# Altium footprint library Connector_Phoenix_MC_HighVoltage.PcbLib: 66 footprints (part 4 of 5)
Each footprint in its own frame and in the unit in brackets; x right, y up, seen from the top. Pads: shape width x height; smd on the part's side, far side on the other; paste and mask are expansions set on the pad; w line width, h text height; cw(c..) or ccw(c..) is an arc to the next point about the centre after c.
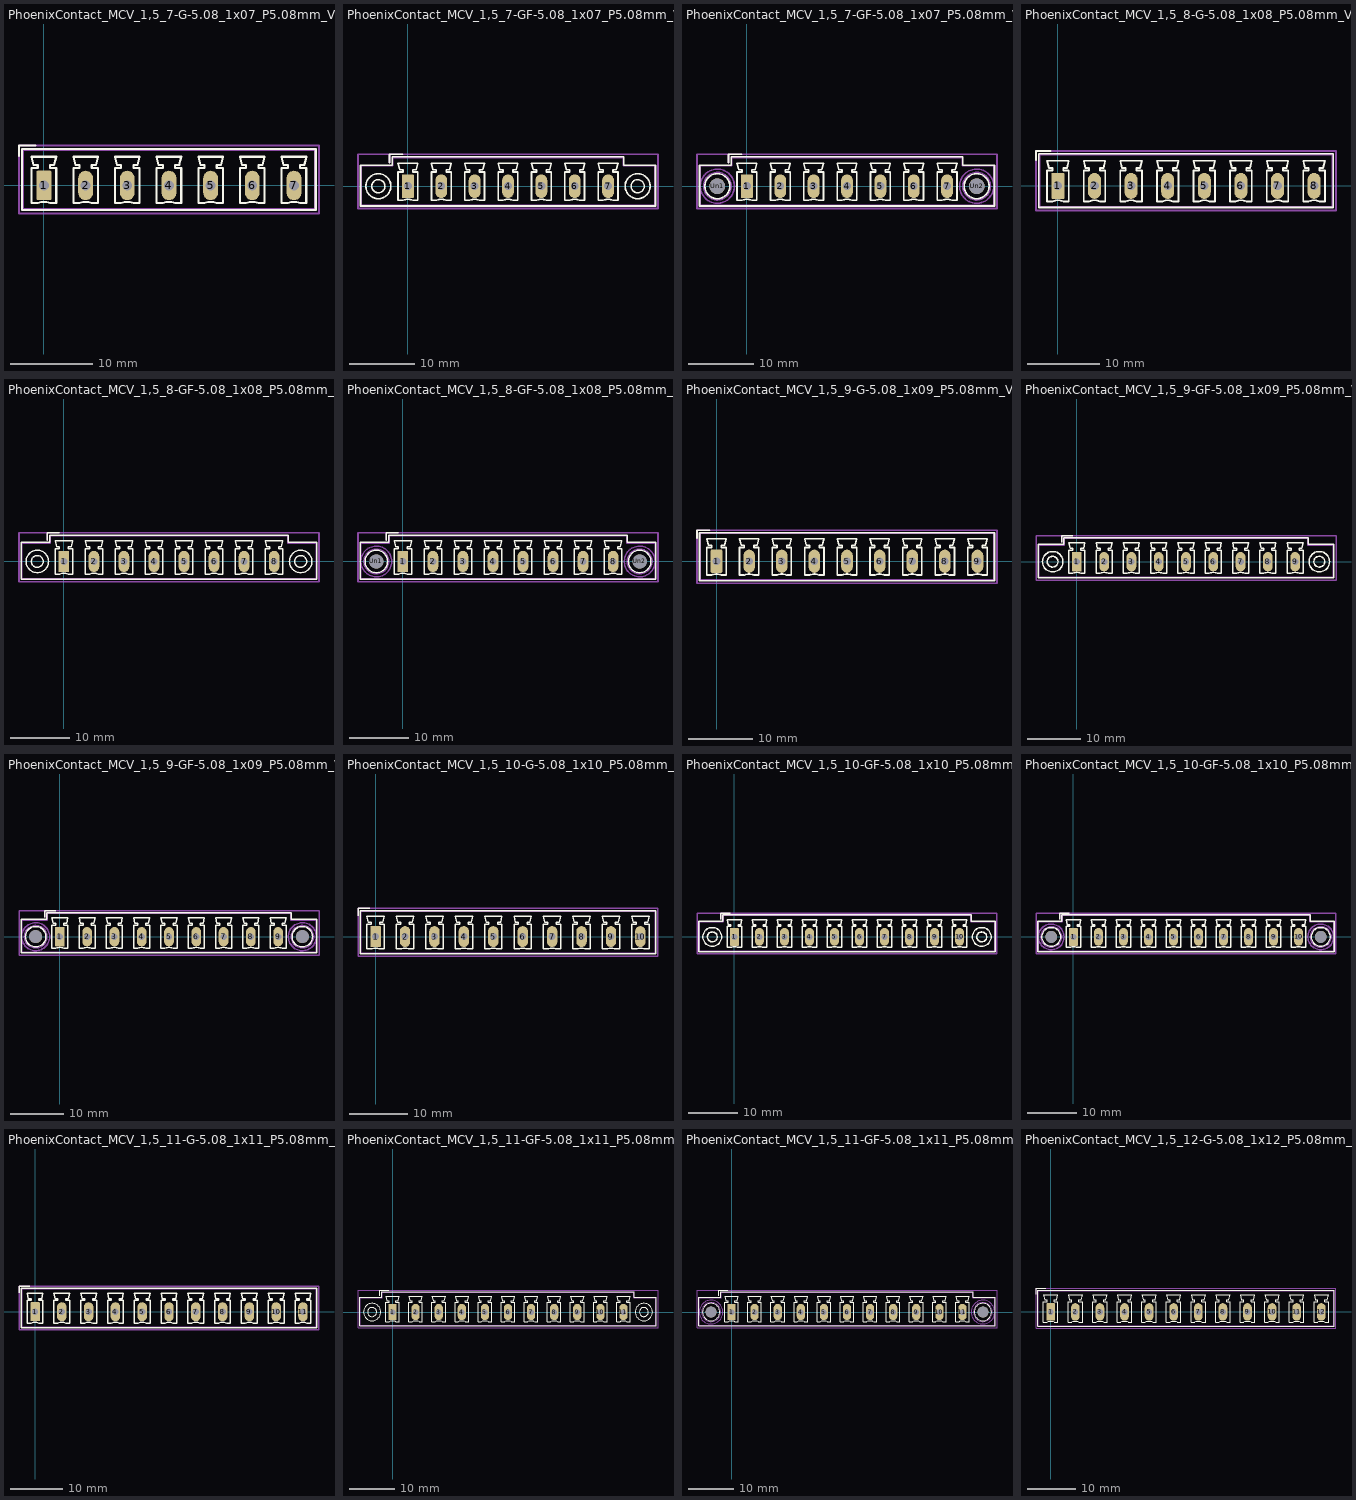
[diagram p3: the footprints below, top view; thin cyan lines are the x and y axes]

## PhoenixContact_MCV_1,5_7-G-5.08_1x07_P5.08mm_Vertical [mm]
pads (7):
  rrect14% 1.8x3.6 hole 1.2: 1(0,0)
  rrect100% 1.8x3.6 hole 1.2: 2(5.08,0) 3(10.16,0) 4(15.24,0) 5(20.32,0) 6(25.4,0) 7(30.48,0)
F.SilkS:
  lines w0.254: -3.04,3.6 -3.04,4.85 -1.04,4.85 ; 0.75,-2.15 ccw(c0,-3.85) -0.75,-2.15 -1.5,-2.15 -1.5,2.15 -0.75,2.15 -0.75,2.5 -1.25,2.5 -1.5,3.5 1.5,3.5 1.25,2.5 0.75,2.5 0.75,2.15 1.5,2.15 1.5,-2.15 0.75,-2.15 ; 5.83,-2.15 ccw(c5.08,-3.85) 4.33,-2.15 3.58,-2.15 3.58,2.15 4.33,2.15 4.33,2.5 3.83,2.5 3.58,3.5 6.58,3.5 6.33,2.5 5.83,2.5 5.83,2.15 6.58,2.15 6.58,-2.15 5.83,-2.15 ; 10.91,-2.15 ccw(c10.16,-3.85) 9.41,-2.15 8.66,-2.15 8.66,2.15 9.41,2.15 9.41,2.5 8.91,2.5 8.66,3.5 11.66,3.5 11.41,2.5 10.91,2.5 10.91,2.15 11.66,2.15 11.66,-2.15 10.91,-2.15 ; 15.99,-2.15 ccw(c15.24,-3.85) 14.49,-2.15 13.74,-2.15 13.74,2.15 14.49,2.15 14.49,2.5 13.99,2.5 13.74,3.5 16.74,3.5 16.49,2.5 15.99,2.5 15.99,2.15 16.74,2.15 16.74,-2.15 15.99,-2.15 ; 21.07,-2.15 ccw(c20.32,-3.85) 19.57,-2.15 18.82,-2.15 18.82,2.15 19.57,2.15 19.57,2.5 19.07,2.5 18.82,3.5 21.82,3.5 21.57,2.5 21.07,2.5 21.07,2.15 21.82,2.15 21.82,-2.15 21.07,-2.15 ; 26.15,-2.15 ccw(c25.4,-3.85) 24.65,-2.15 23.9,-2.15 23.9,2.15 24.65,2.15 24.65,2.5 24.15,2.5 23.9,3.5 26.9,3.5 26.65,2.5 26.15,2.5 26.15,2.15 26.9,2.15 26.9,-2.15 26.15,-2.15 ; 31.23,-2.15 ccw(c30.48,-3.85) 29.73,-2.15 28.98,-2.15 28.98,2.15 29.73,2.15 29.73,2.5 29.23,2.5 28.98,3.5 31.98,3.5 31.73,2.5 31.23,2.5 31.23,2.15 31.98,2.15 31.98,-2.15 31.23,-2.15 ; -2.65,-3.01 33.13,-3.01 33.13,4.46 -2.65,4.46 -2.65,-3.01
Top Assembly:
  lines w0.254: -3.04,3.6 -3.04,4.85 -1.04,4.85 ; -2.54,-2.9 33.02,-2.9 33.02,4.35 -2.54,4.35 -2.54,-2.9
  text "'.Designator'" at 11.193,2.81 h1
Top Courtyard:
  lines w0.254: -3.04,-3.41 33.53,-3.41 33.53,4.85 -3.04,4.85 -3.04,-3.41
Top Designator:
  text ".Designator" at 7.627,0.212 h1.52

## PhoenixContact_MCV_1,5_7-GF-5.08_1x07_P5.08mm_Vertical_ThreadedFlange [mm]
pads (7):
  rrect14% 1.8x3.6 hole 1.2: 1(0,0)
  rrect100% 1.8x3.6 hole 1.2: 2(5.08,0) 3(10.16,0) 4(15.24,0) 5(20.32,0) 6(25.4,0) 7(30.48,0)
F.SilkS:
  circle w0.254: c34.98,0 r1.9
  circle w0.254: c34.98,0 r1
  circle w0.254: c-4.5,0 r1.9
  circle w0.254: c-4.5,0 r1
  lines w0.254: -2.8,3.6 -2.8,4.85 -0.8,4.85 ; 0.75,-2.15 ccw(c0,-3.85) -0.75,-2.15 -1.5,-2.15 -1.5,2.15 -0.75,2.15 -0.75,2.5 -1.25,2.5 -1.5,3.5 1.5,3.5 1.25,2.5 0.75,2.5 0.75,2.15 1.5,2.15 1.5,-2.15 0.75,-2.15 ; 5.83,-2.15 ccw(c5.08,-3.85) 4.33,-2.15 3.58,-2.15 3.58,2.15 4.33,2.15 4.33,2.5 3.83,2.5 3.58,3.5 6.58,3.5 6.33,2.5 5.83,2.5 5.83,2.15 6.58,2.15 6.58,-2.15 5.83,-2.15 ; 10.91,-2.15 ccw(c10.16,-3.85) 9.41,-2.15 8.66,-2.15 8.66,2.15 9.41,2.15 9.41,2.5 8.91,2.5 8.66,3.5 11.66,3.5 11.41,2.5 10.91,2.5 10.91,2.15 11.66,2.15 11.66,-2.15 10.91,-2.15 ; 15.99,-2.15 ccw(c15.24,-3.85) 14.49,-2.15 13.74,-2.15 13.74,2.15 14.49,2.15 14.49,2.5 13.99,2.5 13.74,3.5 16.74,3.5 16.49,2.5 15.99,2.5 15.99,2.15 16.74,2.15 16.74,-2.15 15.99,-2.15 ; 21.07,-2.15 ccw(c20.32,-3.85) 19.57,-2.15 18.82,-2.15 18.82,2.15 19.57,2.15 19.57,2.5 19.07,2.5 18.82,3.5 21.82,3.5 21.57,2.5 21.07,2.5 21.07,2.15 21.82,2.15 21.82,-2.15 21.07,-2.15 ; 26.15,-2.15 ccw(c25.4,-3.85) 24.65,-2.15 23.9,-2.15 23.9,2.15 24.65,2.15 24.65,2.5 24.15,2.5 23.9,3.5 26.9,3.5 26.65,2.5 26.15,2.5 26.15,2.15 26.9,2.15 26.9,-2.15 26.15,-2.15 ; 31.23,-2.15 ccw(c30.48,-3.85) 29.73,-2.15 28.98,-2.15 28.98,2.15 29.73,2.15 29.73,2.5 29.23,2.5 28.98,3.5 31.98,3.5 31.73,2.5 31.23,2.5 31.23,2.15 31.98,2.15 31.98,-2.15 31.23,-2.15 ; -7.21,-3.01 37.69,-3.01 37.69,3.21 32.89,3.21 32.89,4.46 -2.41,4.46 -2.41,3.21 -7.21,3.21 -7.21,-3.01
Top Assembly:
  lines w0.254: -2.8,3.6 -2.8,4.85 -0.8,4.85 ; -7.1,-2.9 37.58,-2.9 37.58,3.1 32.78,3.1 32.78,4.35 -2.3,4.35 -2.3,3.1 -7.1,3.1 -7.1,-2.9
  text "'.Designator'" at 11.193,2.81 h1
Top Courtyard:
  lines w0.254: -7.6,-3.41 38.08,-3.41 38.08,4.85 -7.6,4.85 -7.6,-3.41
Top Designator:
  text ".Designator" at 7.622,0.212 h1.52

## PhoenixContact_MCV_1,5_7-GF-5.08_1x07_P5.08mm_Vertical_ThreadedFlange_MountHole [mm]
pads (9):
  rrect14% 1.8x3.6 hole 1.2: 1(0,0)
  rrect100% 1.8x3.6 hole 1.2: 2(5.08,0) 3(10.16,0) 4(15.24,0) 5(20.32,0) 6(25.4,0) 7(30.48,0)
  round 2.4 hole 2.4: Un1(-4.5,0) Un2(34.98,0)
F.SilkS:
  circle w0.254: c34.98,0 r1.9
  circle w0.254: c-4.5,0 r1.9
  lines w0.254: -2.8,3.6 -2.8,4.85 -0.8,4.85 ; 0.75,-2.15 ccw(c0,-3.85) -0.75,-2.15 -1.5,-2.15 -1.5,2.15 -0.75,2.15 -0.75,2.5 -1.25,2.5 -1.5,3.5 1.5,3.5 1.25,2.5 0.75,2.5 0.75,2.15 1.5,2.15 1.5,-2.15 0.75,-2.15 ; 5.83,-2.15 ccw(c5.08,-3.85) 4.33,-2.15 3.58,-2.15 3.58,2.15 4.33,2.15 4.33,2.5 3.83,2.5 3.58,3.5 6.58,3.5 6.33,2.5 5.83,2.5 5.83,2.15 6.58,2.15 6.58,-2.15 5.83,-2.15 ; 10.91,-2.15 ccw(c10.16,-3.85) 9.41,-2.15 8.66,-2.15 8.66,2.15 9.41,2.15 9.41,2.5 8.91,2.5 8.66,3.5 11.66,3.5 11.41,2.5 10.91,2.5 10.91,2.15 11.66,2.15 11.66,-2.15 10.91,-2.15 ; 15.99,-2.15 ccw(c15.24,-3.85) 14.49,-2.15 13.74,-2.15 13.74,2.15 14.49,2.15 14.49,2.5 13.99,2.5 13.74,3.5 16.74,3.5 16.49,2.5 15.99,2.5 15.99,2.15 16.74,2.15 16.74,-2.15 15.99,-2.15 ; 21.07,-2.15 ccw(c20.32,-3.85) 19.57,-2.15 18.82,-2.15 18.82,2.15 19.57,2.15 19.57,2.5 19.07,2.5 18.82,3.5 21.82,3.5 21.57,2.5 21.07,2.5 21.07,2.15 21.82,2.15 21.82,-2.15 21.07,-2.15 ; 26.15,-2.15 ccw(c25.4,-3.85) 24.65,-2.15 23.9,-2.15 23.9,2.15 24.65,2.15 24.65,2.5 24.15,2.5 23.9,3.5 26.9,3.5 26.65,2.5 26.15,2.5 26.15,2.15 26.9,2.15 26.9,-2.15 26.15,-2.15 ; 31.23,-2.15 ccw(c30.48,-3.85) 29.73,-2.15 28.98,-2.15 28.98,2.15 29.73,2.15 29.73,2.5 29.23,2.5 28.98,3.5 31.98,3.5 31.73,2.5 31.23,2.5 31.23,2.15 31.98,2.15 31.98,-2.15 31.23,-2.15 ; -7.21,-3.01 37.69,-3.01 37.69,3.21 32.89,3.21 32.89,4.46 -2.41,4.46 -2.41,3.21 -7.21,3.21 -7.21,-3.01
B.SilkS:
  circle w0.254: c34.98,0 r2.21
  circle w0.254: c-4.5,0 r2.21
Top Assembly:
  lines w0.254: -2.8,3.6 -2.8,4.85 -0.8,4.85 ; -7.1,-2.9 37.58,-2.9 37.58,3.1 32.78,3.1 32.78,4.35 -2.3,4.35 -2.3,3.1 -7.1,3.1 -7.1,-2.9
  text "'.Designator'" at 11.193,2.81 h1
Bottom Assembly:
  circle w0.254: c34.98,0 r2.1
  circle w0.254: c-4.5,0 r2.1
Top Courtyard:
  lines w0.254: -7.6,-3.41 38.08,-3.41 38.08,4.85 -7.6,4.85 -7.6,-3.41
Bottom Courtyard:
  circle w0.254: c34.98,0 r2.6
  circle w0.254: c-4.5,0 r2.6
Top Designator:
  text ".Designator" at 7.622,0.212 h1.52

## PhoenixContact_MCV_1,5_8-G-5.08_1x08_P5.08mm_Vertical [mm]
pads (8):
  rrect14% 1.8x3.6 hole 1.2: 1(0,0)
  rrect100% 1.8x3.6 hole 1.2: 2(5.08,0) 3(10.16,0) 4(15.24,0) 5(20.32,0) 6(25.4,0) 7(30.48,0) 8(35.56,0)
F.SilkS:
  lines w0.254: -3.04,3.6 -3.04,4.85 -1.04,4.85 ; 0.75,-2.15 ccw(c0,-3.85) -0.75,-2.15 -1.5,-2.15 -1.5,2.15 -0.75,2.15 -0.75,2.5 -1.25,2.5 -1.5,3.5 1.5,3.5 1.25,2.5 0.75,2.5 0.75,2.15 1.5,2.15 1.5,-2.15 0.75,-2.15 ; 5.83,-2.15 ccw(c5.08,-3.85) 4.33,-2.15 3.58,-2.15 3.58,2.15 4.33,2.15 4.33,2.5 3.83,2.5 3.58,3.5 6.58,3.5 6.33,2.5 5.83,2.5 5.83,2.15 6.58,2.15 6.58,-2.15 5.83,-2.15 ; 10.91,-2.15 ccw(c10.16,-3.85) 9.41,-2.15 8.66,-2.15 8.66,2.15 9.41,2.15 9.41,2.5 8.91,2.5 8.66,3.5 11.66,3.5 11.41,2.5 10.91,2.5 10.91,2.15 11.66,2.15 11.66,-2.15 10.91,-2.15 ; 15.99,-2.15 ccw(c15.24,-3.85) 14.49,-2.15 13.74,-2.15 13.74,2.15 14.49,2.15 14.49,2.5 13.99,2.5 13.74,3.5 16.74,3.5 16.49,2.5 15.99,2.5 15.99,2.15 16.74,2.15 16.74,-2.15 15.99,-2.15 ; 21.07,-2.15 ccw(c20.32,-3.85) 19.57,-2.15 18.82,-2.15 18.82,2.15 19.57,2.15 19.57,2.5 19.07,2.5 18.82,3.5 21.82,3.5 21.57,2.5 21.07,2.5 21.07,2.15 21.82,2.15 21.82,-2.15 21.07,-2.15 ; 26.15,-2.15 ccw(c25.4,-3.85) 24.65,-2.15 23.9,-2.15 23.9,2.15 24.65,2.15 24.65,2.5 24.15,2.5 23.9,3.5 26.9,3.5 26.65,2.5 26.15,2.5 26.15,2.15 26.9,2.15 26.9,-2.15 26.15,-2.15 ; 31.23,-2.15 ccw(c30.48,-3.85) 29.73,-2.15 28.98,-2.15 28.98,2.15 29.73,2.15 29.73,2.5 29.23,2.5 28.98,3.5 31.98,3.5 31.73,2.5 31.23,2.5 31.23,2.15 31.98,2.15 31.98,-2.15 31.23,-2.15 ; 36.31,-2.15 ccw(c35.56,-3.85) 34.81,-2.15 34.06,-2.15 34.06,2.15 34.81,2.15 34.81,2.5 34.31,2.5 34.06,3.5 37.06,3.5 36.81,2.5 36.31,2.5 36.31,2.15 37.06,2.15 37.06,-2.15 36.31,-2.15 ; -2.65,-3.01 38.21,-3.01 38.21,4.46 -2.65,4.46 -2.65,-3.01
Top Assembly:
  lines w0.254: -3.04,3.6 -3.04,4.85 -1.04,4.85 ; -2.54,-2.9 38.1,-2.9 38.1,4.35 -2.54,4.35 -2.54,-2.9
  text "'.Designator'" at 13.733,2.81 h1
Top Courtyard:
  lines w0.254: -3.04,-3.41 38.6,-3.41 38.6,4.85 -3.04,4.85 -3.04,-3.41
Top Designator:
  text ".Designator" at 10.162,0.212 h1.52

## PhoenixContact_MCV_1,5_8-GF-5.08_1x08_P5.08mm_Vertical_ThreadedFlange [mm]
pads (8):
  rrect14% 1.8x3.6 hole 1.2: 1(0,0)
  rrect100% 1.8x3.6 hole 1.2: 2(5.08,0) 3(10.16,0) 4(15.24,0) 5(20.32,0) 6(25.4,0) 7(30.48,0) 8(35.56,0)
F.SilkS:
  circle w0.254: c40.06,0 r1.9
  circle w0.254: c40.06,0 r1
  circle w0.254: c-4.5,0 r1.9
  circle w0.254: c-4.5,0 r1
  lines w0.254: -2.8,3.6 -2.8,4.85 -0.8,4.85 ; 0.75,-2.15 ccw(c0,-3.85) -0.75,-2.15 -1.5,-2.15 -1.5,2.15 -0.75,2.15 -0.75,2.5 -1.25,2.5 -1.5,3.5 1.5,3.5 1.25,2.5 0.75,2.5 0.75,2.15 1.5,2.15 1.5,-2.15 0.75,-2.15 ; 5.83,-2.15 ccw(c5.08,-3.85) 4.33,-2.15 3.58,-2.15 3.58,2.15 4.33,2.15 4.33,2.5 3.83,2.5 3.58,3.5 6.58,3.5 6.33,2.5 5.83,2.5 5.83,2.15 6.58,2.15 6.58,-2.15 5.83,-2.15 ; 10.91,-2.15 ccw(c10.16,-3.85) 9.41,-2.15 8.66,-2.15 8.66,2.15 9.41,2.15 9.41,2.5 8.91,2.5 8.66,3.5 11.66,3.5 11.41,2.5 10.91,2.5 10.91,2.15 11.66,2.15 11.66,-2.15 10.91,-2.15 ; 15.99,-2.15 ccw(c15.24,-3.85) 14.49,-2.15 13.74,-2.15 13.74,2.15 14.49,2.15 14.49,2.5 13.99,2.5 13.74,3.5 16.74,3.5 16.49,2.5 15.99,2.5 15.99,2.15 16.74,2.15 16.74,-2.15 15.99,-2.15 ; 21.07,-2.15 ccw(c20.32,-3.85) 19.57,-2.15 18.82,-2.15 18.82,2.15 19.57,2.15 19.57,2.5 19.07,2.5 18.82,3.5 21.82,3.5 21.57,2.5 21.07,2.5 21.07,2.15 21.82,2.15 21.82,-2.15 21.07,-2.15 ; 26.15,-2.15 ccw(c25.4,-3.85) 24.65,-2.15 23.9,-2.15 23.9,2.15 24.65,2.15 24.65,2.5 24.15,2.5 23.9,3.5 26.9,3.5 26.65,2.5 26.15,2.5 26.15,2.15 26.9,2.15 26.9,-2.15 26.15,-2.15 ; 31.23,-2.15 ccw(c30.48,-3.85) 29.73,-2.15 28.98,-2.15 28.98,2.15 29.73,2.15 29.73,2.5 29.23,2.5 28.98,3.5 31.98,3.5 31.73,2.5 31.23,2.5 31.23,2.15 31.98,2.15 31.98,-2.15 31.23,-2.15 ; 36.31,-2.15 ccw(c35.56,-3.85) 34.81,-2.15 34.06,-2.15 34.06,2.15 34.81,2.15 34.81,2.5 34.31,2.5 34.06,3.5 37.06,3.5 36.81,2.5 36.31,2.5 36.31,2.15 37.06,2.15 37.06,-2.15 36.31,-2.15 ; -7.21,-3.01 42.77,-3.01 42.77,3.21 37.97,3.21 37.97,4.46 -2.41,4.46 -2.41,3.21 -7.21,3.21 -7.21,-3.01
Top Assembly:
  lines w0.254: -2.8,3.6 -2.8,4.85 -0.8,4.85 ; -7.1,-2.9 42.66,-2.9 42.66,3.1 37.86,3.1 37.86,4.35 -2.3,4.35 -2.3,3.1 -7.1,3.1 -7.1,-2.9
  text "'.Designator'" at 13.733,2.81 h1
Top Courtyard:
  lines w0.254: -7.6,-3.41 43.16,-3.41 43.16,4.85 -7.6,4.85 -7.6,-3.41
Top Designator:
  text ".Designator" at 10.162,0.212 h1.52

## PhoenixContact_MCV_1,5_8-GF-5.08_1x08_P5.08mm_Vertical_ThreadedFlange_MountHole [mm]
pads (10):
  rrect14% 1.8x3.6 hole 1.2: 1(0,0)
  rrect100% 1.8x3.6 hole 1.2: 2(5.08,0) 3(10.16,0) 4(15.24,0) 5(20.32,0) 6(25.4,0) 7(30.48,0) 8(35.56,0)
  round 2.4 hole 2.4: Un1(-4.5,0) Un2(40.06,0)
F.SilkS:
  circle w0.254: c40.06,0 r1.9
  circle w0.254: c-4.5,0 r1.9
  lines w0.254: -2.8,3.6 -2.8,4.85 -0.8,4.85 ; 0.75,-2.15 ccw(c0,-3.85) -0.75,-2.15 -1.5,-2.15 -1.5,2.15 -0.75,2.15 -0.75,2.5 -1.25,2.5 -1.5,3.5 1.5,3.5 1.25,2.5 0.75,2.5 0.75,2.15 1.5,2.15 1.5,-2.15 0.75,-2.15 ; 5.83,-2.15 ccw(c5.08,-3.85) 4.33,-2.15 3.58,-2.15 3.58,2.15 4.33,2.15 4.33,2.5 3.83,2.5 3.58,3.5 6.58,3.5 6.33,2.5 5.83,2.5 5.83,2.15 6.58,2.15 6.58,-2.15 5.83,-2.15 ; 10.91,-2.15 ccw(c10.16,-3.85) 9.41,-2.15 8.66,-2.15 8.66,2.15 9.41,2.15 9.41,2.5 8.91,2.5 8.66,3.5 11.66,3.5 11.41,2.5 10.91,2.5 10.91,2.15 11.66,2.15 11.66,-2.15 10.91,-2.15 ; 15.99,-2.15 ccw(c15.24,-3.85) 14.49,-2.15 13.74,-2.15 13.74,2.15 14.49,2.15 14.49,2.5 13.99,2.5 13.74,3.5 16.74,3.5 16.49,2.5 15.99,2.5 15.99,2.15 16.74,2.15 16.74,-2.15 15.99,-2.15 ; 21.07,-2.15 ccw(c20.32,-3.85) 19.57,-2.15 18.82,-2.15 18.82,2.15 19.57,2.15 19.57,2.5 19.07,2.5 18.82,3.5 21.82,3.5 21.57,2.5 21.07,2.5 21.07,2.15 21.82,2.15 21.82,-2.15 21.07,-2.15 ; 26.15,-2.15 ccw(c25.4,-3.85) 24.65,-2.15 23.9,-2.15 23.9,2.15 24.65,2.15 24.65,2.5 24.15,2.5 23.9,3.5 26.9,3.5 26.65,2.5 26.15,2.5 26.15,2.15 26.9,2.15 26.9,-2.15 26.15,-2.15 ; 31.23,-2.15 ccw(c30.48,-3.85) 29.73,-2.15 28.98,-2.15 28.98,2.15 29.73,2.15 29.73,2.5 29.23,2.5 28.98,3.5 31.98,3.5 31.73,2.5 31.23,2.5 31.23,2.15 31.98,2.15 31.98,-2.15 31.23,-2.15 ; 36.31,-2.15 ccw(c35.56,-3.85) 34.81,-2.15 34.06,-2.15 34.06,2.15 34.81,2.15 34.81,2.5 34.31,2.5 34.06,3.5 37.06,3.5 36.81,2.5 36.31,2.5 36.31,2.15 37.06,2.15 37.06,-2.15 36.31,-2.15 ; -7.21,-3.01 42.77,-3.01 42.77,3.21 37.97,3.21 37.97,4.46 -2.41,4.46 -2.41,3.21 -7.21,3.21 -7.21,-3.01
B.SilkS:
  circle w0.254: c40.06,0 r2.21
  circle w0.254: c-4.5,0 r2.21
Top Assembly:
  lines w0.254: -2.8,3.6 -2.8,4.85 -0.8,4.85 ; -7.1,-2.9 42.66,-2.9 42.66,3.1 37.86,3.1 37.86,4.35 -2.3,4.35 -2.3,3.1 -7.1,3.1 -7.1,-2.9
  text "'.Designator'" at 13.733,2.81 h1
Bottom Assembly:
  circle w0.254: c40.06,0 r2.1
  circle w0.254: c-4.5,0 r2.1
Top Courtyard:
  lines w0.254: -7.6,-3.41 43.16,-3.41 43.16,4.85 -7.6,4.85 -7.6,-3.41
Bottom Courtyard:
  circle w0.254: c40.06,0 r2.6
  circle w0.254: c-4.5,0 r2.6
Top Designator:
  text ".Designator" at 10.162,0.212 h1.52

## PhoenixContact_MCV_1,5_9-G-5.08_1x09_P5.08mm_Vertical [mm]
pads (9):
  rrect14% 1.8x3.6 hole 1.2: 1(0,0)
  rrect100% 1.8x3.6 hole 1.2: 2(5.08,0) 3(10.16,0) 4(15.24,0) 5(20.32,0) 6(25.4,0) 7(30.48,0) 8(35.56,0) 9(40.64,0)
F.SilkS:
  lines w0.254: -3.04,3.6 -3.04,4.85 -1.04,4.85 ; 0.75,-2.15 ccw(c0,-3.85) -0.75,-2.15 -1.5,-2.15 -1.5,2.15 -0.75,2.15 -0.75,2.5 -1.25,2.5 -1.5,3.5 1.5,3.5 1.25,2.5 0.75,2.5 0.75,2.15 1.5,2.15 1.5,-2.15 0.75,-2.15 ; 5.83,-2.15 ccw(c5.08,-3.85) 4.33,-2.15 3.58,-2.15 3.58,2.15 4.33,2.15 4.33,2.5 3.83,2.5 3.58,3.5 6.58,3.5 6.33,2.5 5.83,2.5 5.83,2.15 6.58,2.15 6.58,-2.15 5.83,-2.15 ; 10.91,-2.15 ccw(c10.16,-3.85) 9.41,-2.15 8.66,-2.15 8.66,2.15 9.41,2.15 9.41,2.5 8.91,2.5 8.66,3.5 11.66,3.5 11.41,2.5 10.91,2.5 10.91,2.15 11.66,2.15 11.66,-2.15 10.91,-2.15 ; 15.99,-2.15 ccw(c15.24,-3.85) 14.49,-2.15 13.74,-2.15 13.74,2.15 14.49,2.15 14.49,2.5 13.99,2.5 13.74,3.5 16.74,3.5 16.49,2.5 15.99,2.5 15.99,2.15 16.74,2.15 16.74,-2.15 15.99,-2.15 ; 21.07,-2.15 ccw(c20.32,-3.85) 19.57,-2.15 18.82,-2.15 18.82,2.15 19.57,2.15 19.57,2.5 19.07,2.5 18.82,3.5 21.82,3.5 21.57,2.5 21.07,2.5 21.07,2.15 21.82,2.15 21.82,-2.15 21.07,-2.15 ; 26.15,-2.15 ccw(c25.4,-3.85) 24.65,-2.15 23.9,-2.15 23.9,2.15 24.65,2.15 24.65,2.5 24.15,2.5 23.9,3.5 26.9,3.5 26.65,2.5 26.15,2.5 26.15,2.15 26.9,2.15 26.9,-2.15 26.15,-2.15 ; 31.23,-2.15 ccw(c30.48,-3.85) 29.73,-2.15 28.98,-2.15 28.98,2.15 29.73,2.15 29.73,2.5 29.23,2.5 28.98,3.5 31.98,3.5 31.73,2.5 31.23,2.5 31.23,2.15 31.98,2.15 31.98,-2.15 31.23,-2.15 ; 36.31,-2.15 ccw(c35.56,-3.85) 34.81,-2.15 34.06,-2.15 34.06,2.15 34.81,2.15 34.81,2.5 34.31,2.5 34.06,3.5 37.06,3.5 36.81,2.5 36.31,2.5 36.31,2.15 37.06,2.15 37.06,-2.15 36.31,-2.15 ; 41.39,-2.15 ccw(c40.64,-3.85) 39.89,-2.15 39.14,-2.15 39.14,2.15 39.89,2.15 39.89,2.5 39.39,2.5 39.14,3.5 42.14,3.5 41.89,2.5 41.39,2.5 41.39,2.15 42.14,2.15 42.14,-2.15 41.39,-2.15 ; -2.65,-3.01 43.29,-3.01 43.29,4.46 -2.65,4.46 -2.65,-3.01
Top Assembly:
  lines w0.254: -3.04,3.6 -3.04,4.85 -1.04,4.85 ; -2.54,-2.9 43.18,-2.9 43.18,4.35 -2.54,4.35 -2.54,-2.9
  text "'.Designator'" at 16.273,2.81 h1
Top Courtyard:
  lines w0.254: -3.04,-3.41 43.68,-3.41 43.68,4.85 -3.04,4.85 -3.04,-3.41
Top Designator:
  text ".Designator" at 12.702,0.212 h1.52

## PhoenixContact_MCV_1,5_9-GF-5.08_1x09_P5.08mm_Vertical_ThreadedFlange [mm]
pads (9):
  rrect14% 1.8x3.6 hole 1.2: 1(0,0)
  rrect100% 1.8x3.6 hole 1.2: 2(5.08,0) 3(10.16,0) 4(15.24,0) 5(20.32,0) 6(25.4,0) 7(30.48,0) 8(35.56,0) 9(40.64,0)
F.SilkS:
  circle w0.254: c45.14,0 r1.9
  circle w0.254: c45.14,0 r1
  circle w0.254: c-4.5,0 r1.9
  circle w0.254: c-4.5,0 r1
  lines w0.254: -2.8,3.6 -2.8,4.85 -0.8,4.85 ; 0.75,-2.15 ccw(c0,-3.85) -0.75,-2.15 -1.5,-2.15 -1.5,2.15 -0.75,2.15 -0.75,2.5 -1.25,2.5 -1.5,3.5 1.5,3.5 1.25,2.5 0.75,2.5 0.75,2.15 1.5,2.15 1.5,-2.15 0.75,-2.15 ; 5.83,-2.15 ccw(c5.08,-3.85) 4.33,-2.15 3.58,-2.15 3.58,2.15 4.33,2.15 4.33,2.5 3.83,2.5 3.58,3.5 6.58,3.5 6.33,2.5 5.83,2.5 5.83,2.15 6.58,2.15 6.58,-2.15 5.83,-2.15 ; 10.91,-2.15 ccw(c10.16,-3.85) 9.41,-2.15 8.66,-2.15 8.66,2.15 9.41,2.15 9.41,2.5 8.91,2.5 8.66,3.5 11.66,3.5 11.41,2.5 10.91,2.5 10.91,2.15 11.66,2.15 11.66,-2.15 10.91,-2.15 ; 15.99,-2.15 ccw(c15.24,-3.85) 14.49,-2.15 13.74,-2.15 13.74,2.15 14.49,2.15 14.49,2.5 13.99,2.5 13.74,3.5 16.74,3.5 16.49,2.5 15.99,2.5 15.99,2.15 16.74,2.15 16.74,-2.15 15.99,-2.15 ; 21.07,-2.15 ccw(c20.32,-3.85) 19.57,-2.15 18.82,-2.15 18.82,2.15 19.57,2.15 19.57,2.5 19.07,2.5 18.82,3.5 21.82,3.5 21.57,2.5 21.07,2.5 21.07,2.15 21.82,2.15 21.82,-2.15 21.07,-2.15 ; 26.15,-2.15 ccw(c25.4,-3.85) 24.65,-2.15 23.9,-2.15 23.9,2.15 24.65,2.15 24.65,2.5 24.15,2.5 23.9,3.5 26.9,3.5 26.65,2.5 26.15,2.5 26.15,2.15 26.9,2.15 26.9,-2.15 26.15,-2.15 ; 31.23,-2.15 ccw(c30.48,-3.85) 29.73,-2.15 28.98,-2.15 28.98,2.15 29.73,2.15 29.73,2.5 29.23,2.5 28.98,3.5 31.98,3.5 31.73,2.5 31.23,2.5 31.23,2.15 31.98,2.15 31.98,-2.15 31.23,-2.15 ; 36.31,-2.15 ccw(c35.56,-3.85) 34.81,-2.15 34.06,-2.15 34.06,2.15 34.81,2.15 34.81,2.5 34.31,2.5 34.06,3.5 37.06,3.5 36.81,2.5 36.31,2.5 36.31,2.15 37.06,2.15 37.06,-2.15 36.31,-2.15 ; 41.39,-2.15 ccw(c40.64,-3.85) 39.89,-2.15 39.14,-2.15 39.14,2.15 39.89,2.15 39.89,2.5 39.39,2.5 39.14,3.5 42.14,3.5 41.89,2.5 41.39,2.5 41.39,2.15 42.14,2.15 42.14,-2.15 41.39,-2.15 ; -7.21,-3.01 47.85,-3.01 47.85,3.21 43.05,3.21 43.05,4.46 -2.41,4.46 -2.41,3.21 -7.21,3.21 -7.21,-3.01
Top Assembly:
  lines w0.254: -2.8,3.6 -2.8,4.85 -0.8,4.85 ; -7.1,-2.9 47.74,-2.9 47.74,3.1 42.94,3.1 42.94,4.35 -2.3,4.35 -2.3,3.1 -7.1,3.1 -7.1,-2.9
  text "'.Designator'" at 16.273,2.81 h1
Top Courtyard:
  lines w0.254: -7.6,-3.41 48.24,-3.41 48.24,4.85 -7.6,4.85 -7.6,-3.41
Top Designator:
  text ".Designator" at 12.702,0.212 h1.52

## PhoenixContact_MCV_1,5_9-GF-5.08_1x09_P5.08mm_Vertical_ThreadedFlange_MountHole [mm]
pads (11):
  rrect14% 1.8x3.6 hole 1.2: 1(0,0)
  rrect100% 1.8x3.6 hole 1.2: 2(5.08,0) 3(10.16,0) 4(15.24,0) 5(20.32,0) 6(25.4,0) 7(30.48,0) 8(35.56,0) 9(40.64,0)
  round 2.4 hole 2.4: Un1(-4.5,0) Un2(45.14,0)
F.SilkS:
  circle w0.254: c45.14,0 r1.9
  circle w0.254: c-4.5,0 r1.9
  lines w0.254: -2.8,3.6 -2.8,4.85 -0.8,4.85 ; 0.75,-2.15 ccw(c0,-3.85) -0.75,-2.15 -1.5,-2.15 -1.5,2.15 -0.75,2.15 -0.75,2.5 -1.25,2.5 -1.5,3.5 1.5,3.5 1.25,2.5 0.75,2.5 0.75,2.15 1.5,2.15 1.5,-2.15 0.75,-2.15 ; 5.83,-2.15 ccw(c5.08,-3.85) 4.33,-2.15 3.58,-2.15 3.58,2.15 4.33,2.15 4.33,2.5 3.83,2.5 3.58,3.5 6.58,3.5 6.33,2.5 5.83,2.5 5.83,2.15 6.58,2.15 6.58,-2.15 5.83,-2.15 ; 10.91,-2.15 ccw(c10.16,-3.85) 9.41,-2.15 8.66,-2.15 8.66,2.15 9.41,2.15 9.41,2.5 8.91,2.5 8.66,3.5 11.66,3.5 11.41,2.5 10.91,2.5 10.91,2.15 11.66,2.15 11.66,-2.15 10.91,-2.15 ; 15.99,-2.15 ccw(c15.24,-3.85) 14.49,-2.15 13.74,-2.15 13.74,2.15 14.49,2.15 14.49,2.5 13.99,2.5 13.74,3.5 16.74,3.5 16.49,2.5 15.99,2.5 15.99,2.15 16.74,2.15 16.74,-2.15 15.99,-2.15 ; 21.07,-2.15 ccw(c20.32,-3.85) 19.57,-2.15 18.82,-2.15 18.82,2.15 19.57,2.15 19.57,2.5 19.07,2.5 18.82,3.5 21.82,3.5 21.57,2.5 21.07,2.5 21.07,2.15 21.82,2.15 21.82,-2.15 21.07,-2.15 ; 26.15,-2.15 ccw(c25.4,-3.85) 24.65,-2.15 23.9,-2.15 23.9,2.15 24.65,2.15 24.65,2.5 24.15,2.5 23.9,3.5 26.9,3.5 26.65,2.5 26.15,2.5 26.15,2.15 26.9,2.15 26.9,-2.15 26.15,-2.15 ; 31.23,-2.15 ccw(c30.48,-3.85) 29.73,-2.15 28.98,-2.15 28.98,2.15 29.73,2.15 29.73,2.5 29.23,2.5 28.98,3.5 31.98,3.5 31.73,2.5 31.23,2.5 31.23,2.15 31.98,2.15 31.98,-2.15 31.23,-2.15 ; 36.31,-2.15 ccw(c35.56,-3.85) 34.81,-2.15 34.06,-2.15 34.06,2.15 34.81,2.15 34.81,2.5 34.31,2.5 34.06,3.5 37.06,3.5 36.81,2.5 36.31,2.5 36.31,2.15 37.06,2.15 37.06,-2.15 36.31,-2.15 ; 41.39,-2.15 ccw(c40.64,-3.85) 39.89,-2.15 39.14,-2.15 39.14,2.15 39.89,2.15 39.89,2.5 39.39,2.5 39.14,3.5 42.14,3.5 41.89,2.5 41.39,2.5 41.39,2.15 42.14,2.15 42.14,-2.15 41.39,-2.15 ; -7.21,-3.01 47.85,-3.01 47.85,3.21 43.05,3.21 43.05,4.46 -2.41,4.46 -2.41,3.21 -7.21,3.21 -7.21,-3.01
B.SilkS:
  circle w0.254: c45.14,0 r2.21
  circle w0.254: c-4.5,0 r2.21
Top Assembly:
  lines w0.254: -2.8,3.6 -2.8,4.85 -0.8,4.85 ; -7.1,-2.9 47.74,-2.9 47.74,3.1 42.94,3.1 42.94,4.35 -2.3,4.35 -2.3,3.1 -7.1,3.1 -7.1,-2.9
  text "'.Designator'" at 16.273,2.81 h1
Bottom Assembly:
  circle w0.254: c45.14,0 r2.1
  circle w0.254: c-4.5,0 r2.1
Top Courtyard:
  lines w0.254: -7.6,-3.41 48.24,-3.41 48.24,4.85 -7.6,4.85 -7.6,-3.41
Bottom Courtyard:
  circle w0.254: c45.14,0 r2.6
  circle w0.254: c-4.5,0 r2.6
Top Designator:
  text ".Designator" at 12.702,0.212 h1.52

## PhoenixContact_MCV_1,5_10-G-5.08_1x10_P5.08mm_Vertical [mm]
pads (10):
  rrect14% 1.8x3.6 hole 1.2: 1(0,0)
  rrect100% 1.8x3.6 hole 1.2: 2(5.08,0) 3(10.16,0) 4(15.24,0) 5(20.32,0) 6(25.4,0) 7(30.48,0) 8(35.56,0) 9(40.64,0) 10(45.72,0)
F.SilkS:
  lines w0.254: -3.04,3.6 -3.04,4.85 -1.04,4.85 ; 0.75,-2.15 ccw(c0,-3.85) -0.75,-2.15 -1.5,-2.15 -1.5,2.15 -0.75,2.15 -0.75,2.5 -1.25,2.5 -1.5,3.5 1.5,3.5 1.25,2.5 0.75,2.5 0.75,2.15 1.5,2.15 1.5,-2.15 0.75,-2.15 ; 5.83,-2.15 ccw(c5.08,-3.85) 4.33,-2.15 3.58,-2.15 3.58,2.15 4.33,2.15 4.33,2.5 3.83,2.5 3.58,3.5 6.58,3.5 6.33,2.5 5.83,2.5 5.83,2.15 6.58,2.15 6.58,-2.15 5.83,-2.15 ; 10.91,-2.15 ccw(c10.16,-3.85) 9.41,-2.15 8.66,-2.15 8.66,2.15 9.41,2.15 9.41,2.5 8.91,2.5 8.66,3.5 11.66,3.5 11.41,2.5 10.91,2.5 10.91,2.15 11.66,2.15 11.66,-2.15 10.91,-2.15 ; 15.99,-2.15 ccw(c15.24,-3.85) 14.49,-2.15 13.74,-2.15 13.74,2.15 14.49,2.15 14.49,2.5 13.99,2.5 13.74,3.5 16.74,3.5 16.49,2.5 15.99,2.5 15.99,2.15 16.74,2.15 16.74,-2.15 15.99,-2.15 ; 21.07,-2.15 ccw(c20.32,-3.85) 19.57,-2.15 18.82,-2.15 18.82,2.15 19.57,2.15 19.57,2.5 19.07,2.5 18.82,3.5 21.82,3.5 21.57,2.5 21.07,2.5 21.07,2.15 21.82,2.15 21.82,-2.15 21.07,-2.15 ; 26.15,-2.15 ccw(c25.4,-3.85) 24.65,-2.15 23.9,-2.15 23.9,2.15 24.65,2.15 24.65,2.5 24.15,2.5 23.9,3.5 26.9,3.5 26.65,2.5 26.15,2.5 26.15,2.15 26.9,2.15 26.9,-2.15 26.15,-2.15 ; 31.23,-2.15 ccw(c30.48,-3.85) 29.73,-2.15 28.98,-2.15 28.98,2.15 29.73,2.15 29.73,2.5 29.23,2.5 28.98,3.5 31.98,3.5 31.73,2.5 31.23,2.5 31.23,2.15 31.98,2.15 31.98,-2.15 31.23,-2.15 ; 36.31,-2.15 ccw(c35.56,-3.85) 34.81,-2.15 34.06,-2.15 34.06,2.15 34.81,2.15 34.81,2.5 34.31,2.5 34.06,3.5 37.06,3.5 36.81,2.5 36.31,2.5 36.31,2.15 37.06,2.15 37.06,-2.15 36.31,-2.15 ; 41.39,-2.15 ccw(c40.64,-3.85) 39.89,-2.15 39.14,-2.15 39.14,2.15 39.89,2.15 39.89,2.5 39.39,2.5 39.14,3.5 42.14,3.5 41.89,2.5 41.39,2.5 41.39,2.15 42.14,2.15 42.14,-2.15 41.39,-2.15 ; 46.47,-2.15 ccw(c45.72,-3.85) 44.97,-2.15 44.22,-2.15 44.22,2.15 44.97,2.15 44.97,2.5 44.47,2.5 44.22,3.5 47.22,3.5 46.97,2.5 46.47,2.5 46.47,2.15 47.22,2.15 47.22,-2.15 46.47,-2.15 ; -2.65,-3.01 48.37,-3.01 48.37,4.46 -2.65,4.46 -2.65,-3.01
Top Assembly:
  lines w0.254: -3.04,3.6 -3.04,4.85 -1.04,4.85 ; -2.54,-2.9 48.26,-2.9 48.26,4.35 -2.54,4.35 -2.54,-2.9
  text "'.Designator'" at 18.813,2.81 h1
Top Courtyard:
  lines w0.254: -3.04,-3.41 48.76,-3.41 48.76,4.85 -3.04,4.85 -3.04,-3.41
Top Designator:
  text ".Designator" at 15.242,0.212 h1.52

## PhoenixContact_MCV_1,5_10-GF-5.08_1x10_P5.08mm_Vertical_ThreadedFlange [mm]
pads (10):
  rrect14% 1.8x3.6 hole 1.2: 1(0,0)
  rrect100% 1.8x3.6 hole 1.2: 2(5.08,0) 3(10.16,0) 4(15.24,0) 5(20.32,0) 6(25.4,0) 7(30.48,0) 8(35.56,0) 9(40.64,0) 10(45.72,0)
F.SilkS:
  drawing of 154 lines, arcs and shapes, not listed
Top Assembly:
  lines w0.254: -2.8,3.6 -2.8,4.85 -0.8,4.85 ; -7.1,-2.9 52.82,-2.9 52.82,3.1 48.02,3.1 48.02,4.35 -2.3,4.35 -2.3,3.1 -7.1,3.1 -7.1,-2.9
  text "'.Designator'" at 18.813,2.81 h1
Top Courtyard:
  lines w0.254: -7.6,-3.41 53.32,-3.41 53.32,4.85 -7.6,4.85 -7.6,-3.41
Top Designator:
  text ".Designator" at 15.242,0.212 h1.52

## PhoenixContact_MCV_1,5_10-GF-5.08_1x10_P5.08mm_Vertical_ThreadedFlange_MountHole [mm]
pads (12):
  rrect14% 1.8x3.6 hole 1.2: 1(0,0)
  rrect100% 1.8x3.6 hole 1.2: 2(5.08,0) 3(10.16,0) 4(15.24,0) 5(20.32,0) 6(25.4,0) 7(30.48,0) 8(35.56,0) 9(40.64,0) 10(45.72,0)
  round 2.4 hole 2.4: Un1(-4.5,0) Un2(50.22,0)
F.SilkS:
  drawing of 152 lines, arcs and shapes, not listed
B.SilkS:
  circle w0.254: c50.22,0 r2.21
  circle w0.254: c-4.5,0 r2.21
Top Assembly:
  lines w0.254: -2.8,3.6 -2.8,4.85 -0.8,4.85 ; -7.1,-2.9 52.82,-2.9 52.82,3.1 48.02,3.1 48.02,4.35 -2.3,4.35 -2.3,3.1 -7.1,3.1 -7.1,-2.9
  text "'.Designator'" at 18.813,2.81 h1
Bottom Assembly:
  circle w0.254: c50.22,0 r2.1
  circle w0.254: c-4.5,0 r2.1
Top Courtyard:
  lines w0.254: -7.6,-3.41 53.32,-3.41 53.32,4.85 -7.6,4.85 -7.6,-3.41
Bottom Courtyard:
  circle w0.254: c50.22,0 r2.6
  circle w0.254: c-4.5,0 r2.6
Top Designator:
  text ".Designator" at 15.242,0.212 h1.52

## PhoenixContact_MCV_1,5_11-G-5.08_1x11_P5.08mm_Vertical [mm]
pads (11):
  rrect14% 1.8x3.6 hole 1.2: 1(0,0)
  rrect100% 1.8x3.6 hole 1.2: 2(5.08,0) 3(10.16,0) 4(15.24,0) 5(20.32,0) 6(25.4,0) 7(30.48,0) 8(35.56,0) 9(40.64,0) 10(45.72,0) 11(50.8,0)
F.SilkS:
  drawing of 160 lines, arcs and shapes, not listed
Top Assembly:
  lines w0.254: -3.04,3.6 -3.04,4.85 -1.04,4.85 ; -2.54,-2.9 53.34,-2.9 53.34,4.35 -2.54,4.35 -2.54,-2.9
  text "'.Designator'" at 21.353,2.81 h1
Top Courtyard:
  lines w0.254: -3.04,-3.41 53.84,-3.41 53.84,4.85 -3.04,4.85 -3.04,-3.41
Top Designator:
  text ".Designator" at 17.782,0.212 h1.52

## PhoenixContact_MCV_1,5_11-GF-5.08_1x11_P5.08mm_Vertical_ThreadedFlange [mm]
pads (11):
  rrect14% 1.8x3.6 hole 1.2: 1(0,0)
  rrect100% 1.8x3.6 hole 1.2: 2(5.08,0) 3(10.16,0) 4(15.24,0) 5(20.32,0) 6(25.4,0) 7(30.48,0) 8(35.56,0) 9(40.64,0) 10(45.72,0) 11(50.8,0)
F.SilkS:
  drawing of 168 lines, arcs and shapes, not listed
Top Assembly:
  lines w0.254: -2.8,3.6 -2.8,4.85 -0.8,4.85 ; -7.1,-2.9 57.9,-2.9 57.9,3.1 53.1,3.1 53.1,4.35 -2.3,4.35 -2.3,3.1 -7.1,3.1 -7.1,-2.9
  text "'.Designator'" at 21.353,2.81 h1
Top Courtyard:
  lines w0.254: -7.6,-3.41 58.4,-3.41 58.4,4.85 -7.6,4.85 -7.6,-3.41
Top Designator:
  text ".Designator" at 17.782,0.212 h1.52

## PhoenixContact_MCV_1,5_11-GF-5.08_1x11_P5.08mm_Vertical_ThreadedFlange_MountHole [mm]
pads (13):
  rrect14% 1.8x3.6 hole 1.2: 1(0,0)
  rrect100% 1.8x3.6 hole 1.2: 2(5.08,0) 3(10.16,0) 4(15.24,0) 5(20.32,0) 6(25.4,0) 7(30.48,0) 8(35.56,0) 9(40.64,0) 10(45.72,0) 11(50.8,0)
  round 2.4 hole 2.4: Un1(-4.5,0) Un2(55.3,0)
F.SilkS:
  drawing of 166 lines, arcs and shapes, not listed
B.SilkS:
  circle w0.254: c55.3,0 r2.21
  circle w0.254: c-4.5,0 r2.21
Top Assembly:
  lines w0.254: -2.8,3.6 -2.8,4.85 -0.8,4.85 ; -7.1,-2.9 57.9,-2.9 57.9,3.1 53.1,3.1 53.1,4.35 -2.3,4.35 -2.3,3.1 -7.1,3.1 -7.1,-2.9
  text "'.Designator'" at 21.353,2.81 h1
Bottom Assembly:
  circle w0.254: c55.3,0 r2.1
  circle w0.254: c-4.5,0 r2.1
Top Courtyard:
  lines w0.254: -7.6,-3.41 58.4,-3.41 58.4,4.85 -7.6,4.85 -7.6,-3.41
Bottom Courtyard:
  circle w0.254: c55.3,0 r2.6
  circle w0.254: c-4.5,0 r2.6
Top Designator:
  text ".Designator" at 17.782,0.212 h1.52

## PhoenixContact_MCV_1,5_12-G-5.08_1x12_P5.08mm_Vertical [mm]
pads (12):
  rrect14% 1.8x3.6 hole 1.2: 1(0,0)
  rrect100% 1.8x3.6 hole 1.2: 2(5.08,0) 3(10.16,0) 4(15.24,0) 5(20.32,0) 6(25.4,0) 7(30.48,0) 8(35.56,0) 9(40.64,0) 10(45.72,0) 11(50.8,0) 12(55.88,0)
F.SilkS:
  drawing of 174 lines, arcs and shapes, not listed
Top Assembly:
  lines w0.254: -3.04,3.6 -3.04,4.85 -1.04,4.85 ; -2.54,-2.9 58.42,-2.9 58.42,4.35 -2.54,4.35 -2.54,-2.9
  text "'.Designator'" at 23.893,2.81 h1
Top Courtyard:
  lines w0.254: -3.04,-3.41 58.92,-3.41 58.92,4.85 -3.04,4.85 -3.04,-3.41
Top Designator:
  text ".Designator" at 20.322,0.212 h1.52